# EAGLE library part PINHD1X6 (library FP-21T for MITS)
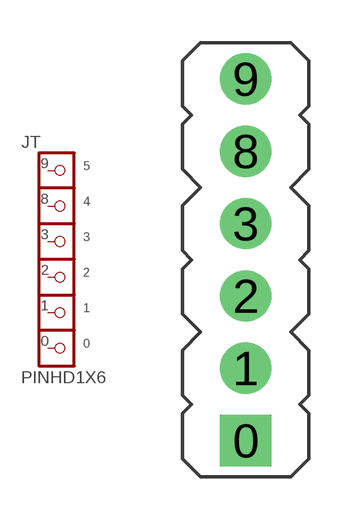
[diagram p9: symbol with the pads of PINHD1X6; footprint PINHD1X6]

Designator prefix JT

## PINHD1X6  [PINHD1X6]
0  1  pas
1  2  pas
2  3  pas
3  4  pas
8  5  pas
9  6  pas

## Footprint PINHD1X6 (pad centres in mm)
drill 1 pad 1.8 square: 0 0,0
drill 1 pad 1.8: 1 0,2.54; 2 0,5.08; 3 0,7.62; 8 0,10.16; 9 0,12.7